# Altium schematic symbol library Resistor.SchLib: 1 symbol
Pins are listed as number, name and electrical type; pins without a type are passive.

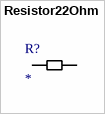
[diagram p0: symbol Resistor22Ohm]

## Resistor22Ohm
designator R?
footprint R0805X045M (Chip Resistor, 2-Leads, Body 2.00x1.25mm, IPC Low Density)
pins: 1 (power), 2 (power)